# Altium footprint library PCB - CONNECTOR - OST - OST OSTTE070161.PcbLib: 1 footprints
Each footprint in its own frame and in the unit in brackets; x right, y up, seen from the top. Pads: shape width x height; smd on the part's side, far side on the other; paste and mask are expansions set on the pad; w line width, h text height; cw(c..) or ccw(c..) is an arc to the next point about the centre after c.
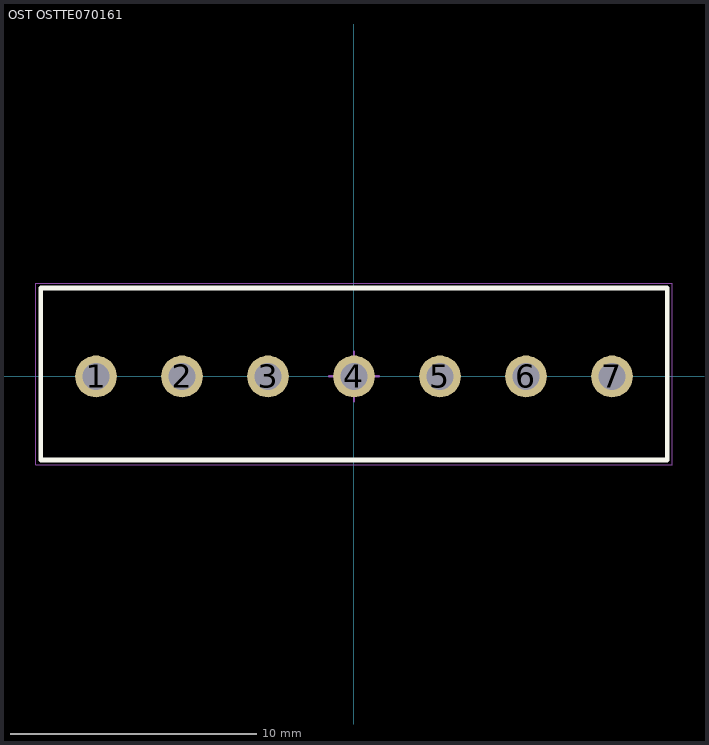
[diagram p0: the footprint, top view; thin cyan lines are the x and y axes]

## OST OSTTE070161 [mm] "Wire to Board Terminal Block Horizontal with Board Through Hole, 7 Position, 3.5mm Pitch, 25.5x7.0 mm Body"
height 8.4
pads (7):
  round 1.7 hole 1.1: 1(-10.5,0) 2(-7,0) 3(-3.5,0) 4(0,0) 5(3.5,0) 6(7,0) 7(10.5,0)
Top Overlay:
  lines w0.2: -12.75,-3.4 -12.75,3.6 12.75,3.6 12.75,-3.4 -12.75,-3.4
Mechanical 13:
  lines w0.1: -12.75,-3.4 -12.75,3.6 12.75,3.6 12.75,-3.4 -12.75,-3.4
Mechanical 15 (Mech15):
  lines w0.05: -12.95,-3.6 -12.95,3.8 12.95,3.8 12.95,-3.6 -12.95,-3.6
  lines w0.1: -1,0 0,0 ; 0,-1 0,0 ; 0,1 0,0 ; 1,0 0,0
3D body "OST - OSTTE070161 v3.step": height 8.7, standoff -3.32, extent -12.75,-3.4 12.75,3.6